# Altium footprint library Main.PcbLib: 120 footprints (part 4 of 8)
Each footprint in its own frame and in the unit in brackets; x right, y up, seen from the top. Pads: shape width x height; smd on the part's side, far side on the other; paste and mask are expansions set on the pad; w line width, h text height; cw(c..) or ccw(c..) is an arc to the next point about the centre after c.
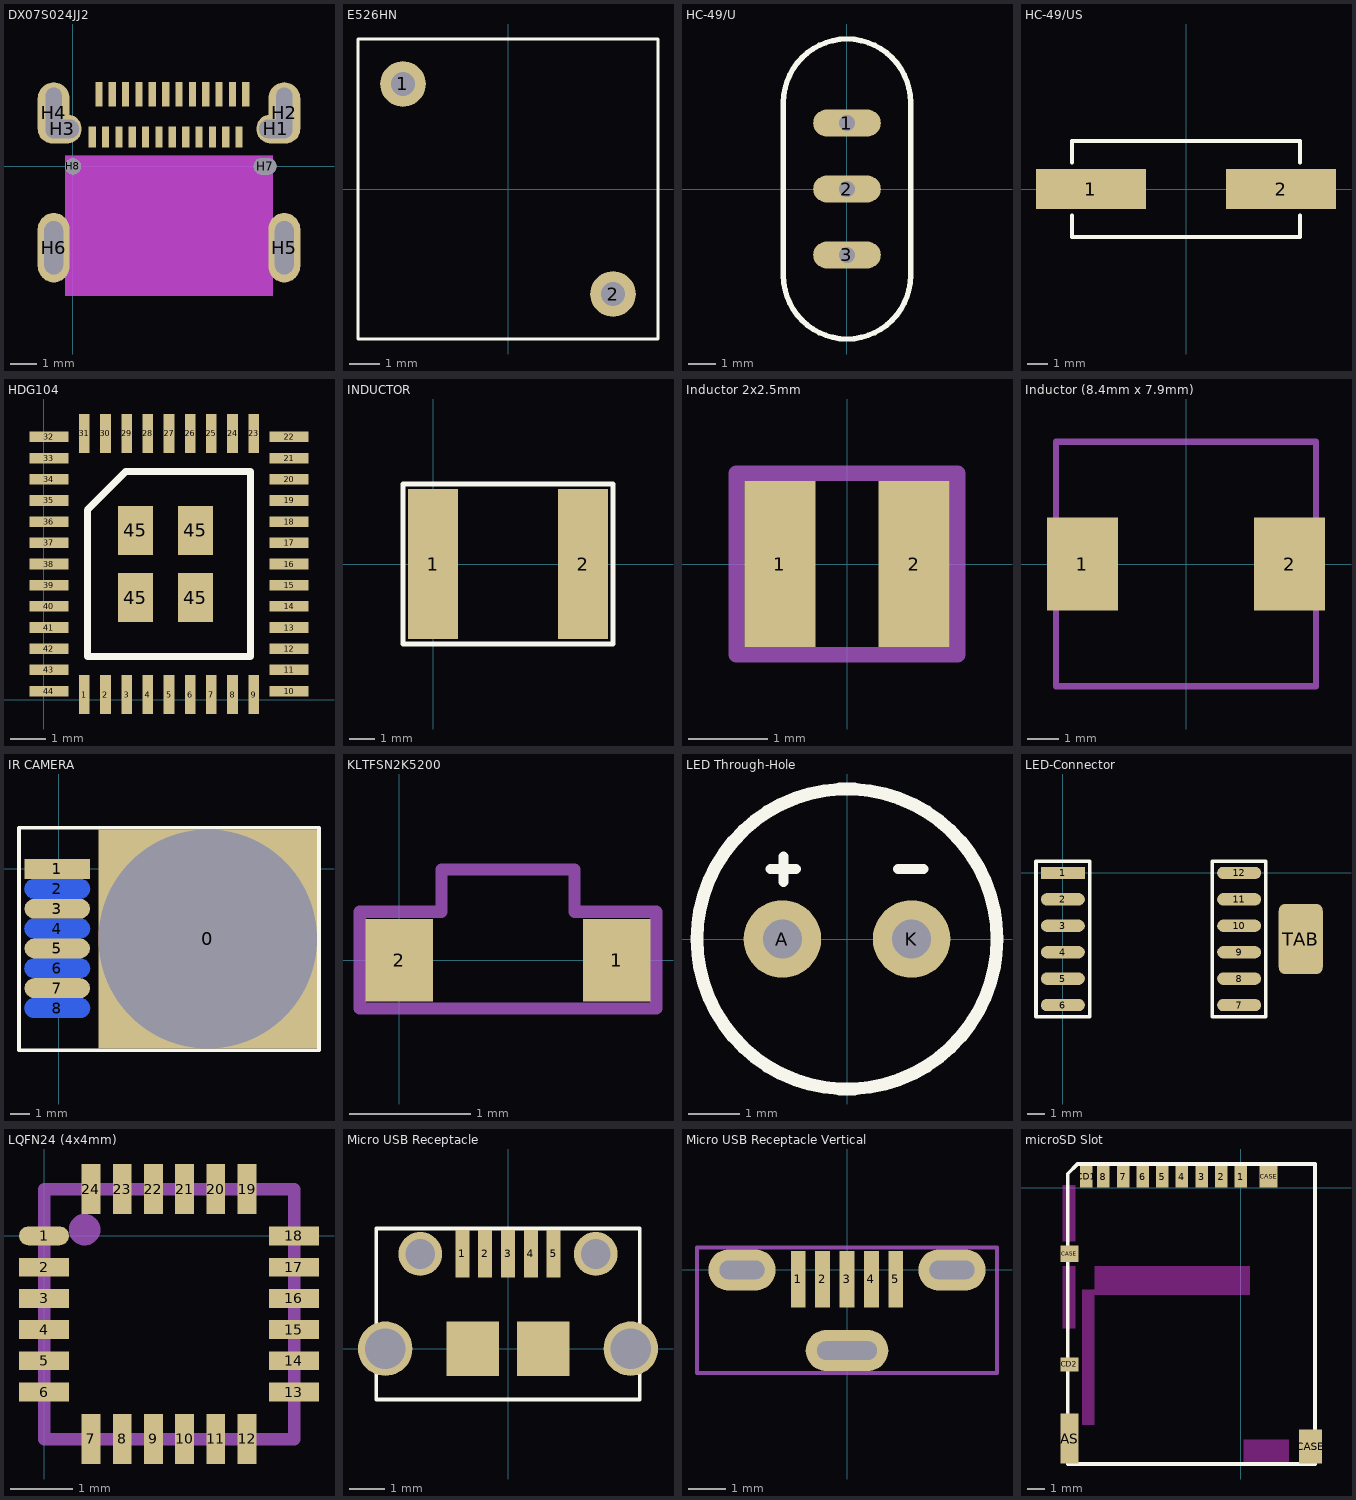
[diagram p3: the footprints below, top view; thin cyan lines are the x and y axes]

## DX07S024JJ2 [mm]
height 3.14
pads (32):
  rect 0.27x0.9 smd: A1(0.975,2.7) A2(1.475,2.7) A3(1.975,2.7) A4(2.475,2.7) A5(2.975,2.7) A6(3.475,2.7) A7(3.975,2.7) A8(4.475,2.7) A9(4.975,2.7) A10(5.475,2.7) A11(5.975,2.7) A12(6.475,2.7)
  rect 0.27x0.8 smd: B1(6.225,1.1) B2(5.725,1.1) B3(5.225,1.1) B4(4.725,1.1) B5(4.225,1.1) B6(3.725,1.1) B7(3.225,1.1) B8(2.725,1.1) B9(2.225,1.1) B10(1.725,1.1) B11(1.225,1.1) B12(0.725,1.1)
  oval 1.65x1.1 hole 0.7 slot 1.25 at 0 deg copper offset 0.1,0: H1(7.595,1.4)
  oval 1.2x2.3 hole 0.6 slot 1.9 at 90 deg: H2(7.92,2) H4(-0.72,2)
  oval 1.65x1.1 hole 0.7 slot 1.25 at 0 deg copper offset -0.1,0: H3(-0.395,1.4)
  oval 1.2x2.6 hole 0.7 slot 2 at 90 deg: H5(7.92,-3.05) H6(-0.72,-3.05)
  oval 0.85x0.6 hole 0.6 slot 0.85 at 0 deg unplated: H7(7.2,0)
  round 0.6 hole 0.6 unplated: H8(0,0)
Mechanical 1:
  text "Board Edge" at 0.175,-5.25 h0.25
Mechanical 1 keep-out:
  rectangle: -0.3,-4.85 7.5,0.4

## E526HN [mm]
pads (2):
  round 1.524 hole 0.8: 1(-3.5,3.5) 2(3.5,-3.5)
Top Overlay:
  lines w0.102: -5,-5 5,-5 5,5 -5,5 -5,-5
3D body: height 13, standoff 0, extent -5,-5 5,5

## HC-49/U [mm]
pads (3):
  oval 2.5x1 hole 0.6: 1(0,2.44) 2(0,0) 3(0,-2.44)
Top Overlay:
  lines w0.2: -2.35,-3.2 ccw(c0,-3.196) 2.35,-3.2 2.35,3.2 ccw(c0,3.196) -2.35,3.2 -2.35,-3.2
3D body: height 11.2, standoff 0, extent -1.984,1.004 2,4.996
3D body: height 11.2, standoff 0, extent -1.992,-5 1.992,-1.008
3D body: height 11.2, standoff 0, extent -1.992,-3.004 2,3

## HC-49/US [mm]
pads (2):
  rect 5.5x2 smd: 1(-4.75,0) 2(4.75,0)
Top Overlay:
  lines w0.2: -5.7,-1.325 -5.7,-2.4 5.7,-2.4 5.7,-1.325 ; -5.7,1.325 -5.7,2.4 5.7,2.4 5.7,1.325
3D body: height 4.3, standoff 0, extent -5.7,-2.4 5.7,2.4

## HDG104 [mm]
pads (48):
  rect 0.3x1.1 smd: 1(1.15,0.15) 2(1.75,0.15) 3(2.35,0.15) 4(2.95,0.15) 5(3.55,0.15) 6(4.15,0.15) 7(4.75,0.15) 8(5.35,0.15) 9(5.95,0.15) 23(5.95,7.55) 24(5.35,7.55) 25(4.75,7.55) 26(4.15,7.55) 27(3.55,7.55) 28(2.95,7.55) 29(2.35,7.55) 30(1.75,7.55) 31(1.15,7.55)
  rect 1.1x0.3 smd: 10(6.95,0.25) 11(6.95,0.85) 12(6.95,1.45) 13(6.95,2.05) 14(6.95,2.65) 15(6.95,3.25) 16(6.95,3.85) 17(6.95,4.45) 18(6.95,5.05) 19(6.95,5.65) 20(6.95,6.25) 21(6.95,6.85) 22(6.95,7.45) 32(0.15,7.45) 33(0.15,6.85) 34(0.15,6.25) 35(0.15,5.65) 36(0.15,5.05) 37(0.15,4.45) 38(0.15,3.85) 39(0.15,3.25) 40(0.15,2.65) 41(0.15,2.05) 42(0.15,1.45) 43(0.15,0.85) 44(0.15,0.25)
  rect 1x1.4 smd: 45(2.6,2.9) 45(2.6,4.8) 45(4.3,2.9) 45(4.3,4.8)
Top Overlay:
  lines w0.2: 1.235,1.235 1.235,5.38 2.32,6.465 5.865,6.465 5.865,1.235 1.235,1.235
3D body: height 1.8, standoff 0, extent 0,0 7.1,7.7

## INDUCTOR [mm]
pads (2):
  rect 2x6 smd: 1(0,0) 2(6,0)
Top Overlay:
  lines w0.2: -1.2,-3.2 -1.2,3.2 7.2,3.2 7.2,-3.2 -1.2,-3.2
3D body: height 4.5, standoff 0, extent 0,-3 6,3

## Inductor 2x2.5mm [mm]
pads (2):
  rect 0.9x2.1 smd: 1(-0.85,0) 2(0.85,0)
Mechanical 29:
  lines w0.2: -1.4,-1.15 1.4,-1.15 1.4,1.15 -1.4,1.15 -1.4,-1.15
  text ".Designator" at -0.925,-0.375 h0.76
3D body: height 1.2, standoff 0, extent -1.25,-1 1.25,1

## Inductor (8.4mm x 7.9mm) [mm]
pads (2):
  rect 2.3x3 smd: 1(-3.35,0) 2(3.35,0)
Mechanical 29:
  lines w0.2: -4.2,-3.95 4.2,-3.95 4.2,3.95 -4.2,3.95 -4.2,-3.95
  text ".Designator" at -1.275,-0.3 h0.76
3D body: height 7.2, standoff 0, extent -4.2,-3.95 4.2,3.95

## IR CAMERA [mm]
pads (9):
  rect 11x11 hole 11 square: 0(7.5,-3.525)
  rect 3.3x1 smd: 1(-0.075,0)
  oval 3.3x1 smd far side: 2(-0.075,-1) 4(-0.075,-3) 6(-0.075,-5) 8(-0.075,-7)
  oval 3.3x1 smd: 3(-0.075,-2) 5(-0.075,-4) 7(-0.075,-6)
Top Overlay:
  lines w0.2: -2,-9.125 13.1,-9.125 13.1,2.075 -2,2.075 -2,-9.125
3D body: height 2, standoff -2, extent 2.5,-8.475 12.5,1.525

## KLTFSN2K5200 [mm]
pads (2):
  rect 0.56x0.68 smd: 1(1.8,0) 2(0,0)
Mechanical 29:
  lines w0.102: -0.325,-0.4 2.125,-0.4 2.125,0.4 1.45,0.4 1.45,0.75 0.35,0.75 0.35,0.4 -0.325,0.4 -0.325,-0.4
  text "H3" at 0.5,-0.225 h0.51
3D body: height 0.4, standoff 0, extent 0,-0.35 1.825,0.75

## LED Through-Hole [mil]
pads (2):
  round 60 hole 30: A(-50,0) K(50,0)
Top Overlay:
  circle w10: c0,0 r116.14
  lines w7.87: -59.06,54.13 -39.37,54.13 ; -49.21,44.29 -49.21,63.98 ; 39.37,54.13 59.06,54.13

## LED-Connector [mm]
pads (13):
  rect 2.5x0.7 smd: 1(0,0)
  oval 2.5x0.7 smd: 2(0,-1.5) 3(0,-3) 4(0,-4.5) 5(0,-6) 6(0,-7.5) 7(10,-7.5) 8(10,-6) 9(10,-4.5) 10(10,-3) 11(10,-1.5) 12(10,0)
  rrect30% 2.5x4 smd: TAB(13.5,-3.75)
Top Overlay:
  lines w0.2: -1.525,-8.175 1.525,-8.175 1.525,0.65 -1.525,0.65 -1.525,-8.175 ; 8.475,-8.175 8.475,0.65 11.525,0.65 11.525,-8.175 8.475,-8.175

## LQFN24 (4x4mm) [mm]
pads (24):
  oval 0.8x0.3 smd: 1(0,0)
  rect 0.8x0.3 smd: 2(0,-0.5) 3(0,-1) 4(0,-1.5) 5(0,-2) 6(0,-2.5) 13(4,-2.5) 14(4,-2) 15(4,-1.5) 16(4,-1) 17(4,-0.5) 18(4,0)
  rect 0.3x0.8 smd: 7(0.75,-3.25) 8(1.25,-3.25) 9(1.75,-3.25) 10(2.25,-3.25) 11(2.75,-3.25) 12(3.25,-3.25) 19(3.25,0.75) 20(2.75,0.75) 21(2.25,0.75) 22(1.75,0.75) 23(1.25,0.75) 24(0.75,0.75)
Mechanical 29:
  circle w0.254: c0.65,0.1 r0.125
  lines w0.2: 0,-3.25 4,-3.25 4,0.75 0,0.75 0,-3.25
  text ".Designator" at 1.15,-1.625 h0.76
3D body: height 0.9, standoff 0, extent 0,-3.25 4,0.75

## Micro USB Receptacle [mm]
pads (11):
  rect 0.4x1.35 smd: 1(-1.3,2.7) 2(-0.65,2.7) 3(0,2.7) 4(0.65,2.7) 5(1.3,2.7)
  round 1.55 hole 1.15: ""(-3.5,0) ""(3.5,0)
  round 1.25 hole 0.85: ""(-2.5,2.7) ""(2.5,2.7)
  rect 1.5x1.55 smd: ""(-1,0) ""(1,0)
Top Overlay:
  lines w0.102: -3.75,-1.45 -3.75,3.425 3.75,3.425 3.75,-1.45 -3.75,-1.45
3D body: height 2.75, standoff 0, extent -3.75,-2.762 3.75,2.763

## Micro USB Receptacle Vertical [mm]
pads (8):
  rect 0.4x1.5 smd: 1(-1.3,-0.25) 2(-0.65,-0.25) 3(0,-0.25) 4(0.65,-0.25) 5(1.3,-0.25)
  oval 1.8x1.1 hole 0.5 slot 1.2 at 0 deg: ""(-2.8,0) ""(2.8,0)
  oval 2.2x1.1 hole 0.5 slot 1.6 at 0 deg: ""(0,-2.15)
Mechanical 29:
  lines w0.102: -4,-2.75 -4,0.6 4,0.6 4,-2.75 -4,-2.75
  text ".Designator" at -1.25,-1.4 h0.76
3D body: height 6.7, standoff 0, extent -4,-2.6 4,0.4

## microSD Slot [mm]
pads (14):
  rect 0.7x1.2 smd: 1(0,0.6) 2(-1.1,0.6) 3(-2.2,0.6) 4(-3.3,0.6) 5(-4.4,0.6) 6(-5.5,0.6) 7(-6.6,0.6) 8(-7.7,0.6) CD1(-8.65,0.6)
  rect 1x2.8 smd: CASE(-9.6,-14.05)
  rect 1x0.9 smd: CASE(-9.6,-3.7)
  rect 1x1.2 smd: CASE(1.55,0.6)
  rect 1.3x1.9 smd: CASE(3.9,-14.5)
  rect 1x0.8 smd: CD2(-9.6,-9.9)
Top Layer keep-out:
  rectangle: 0.15,-15.45 2.7,-14.1
  rectangle: -8.9,-13.3 -8.2,-5.7
  rectangle: -8.2,-6 0.5,-4.4
  rectangle: -10,-7.9 -9.25,-4.375
  rectangle: -10,-3.025 -9.25,0.15
Top Overlay:
  lines w0.2: -9.7,-15.475 -9.7,0.775 -9.15,1.325 4.15,1.325 4.15,-15.475 -9.7,-15.475
3D body: height 1.68, standoff 0.1, extent -9.7,-15.45 4.15,0.5